# Altium schematic symbol library Arduino.SchLib: 3 symbols
Pins are listed as number, name and electrical type; pins without a type are passive.

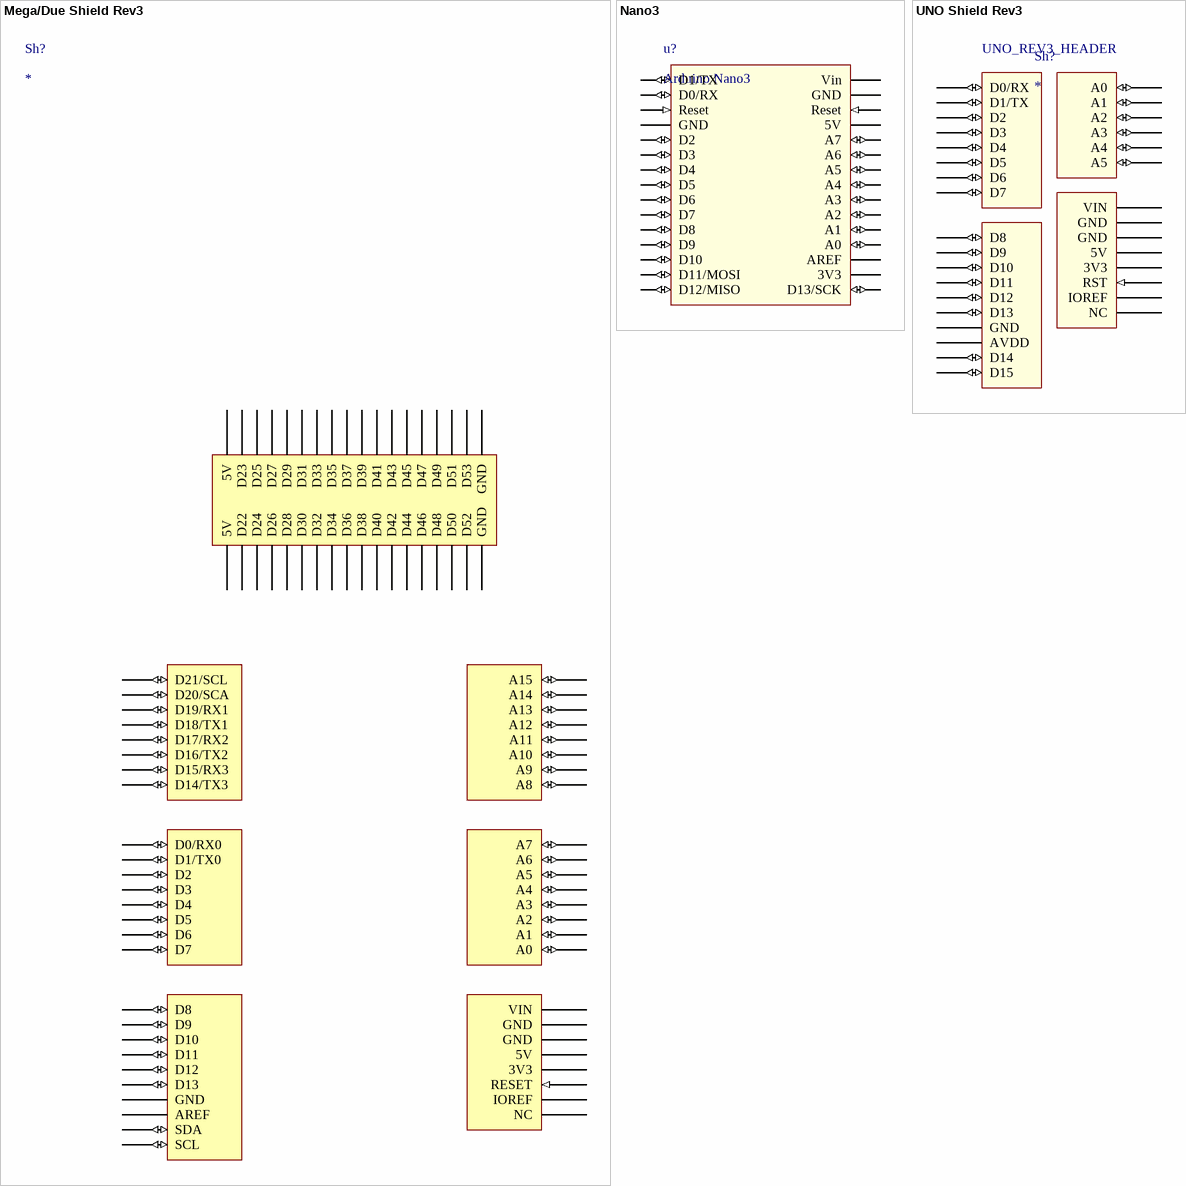
[diagram p0: symbols Mega/Due Shield Rev3 to UNO Shield Rev3]

## Mega/Due Shield Rev3
designator Sh?
footprint Mega2560_R3 Shield
pins: 1 NC, 2 IOREF (power), 3 RESET (in), 4 3V3 (power), 5 5V (power), 6 GND (power), 7 GND (power), 8 VIN (power), 9 A0 (io), 10 A1 (io), 11 A2 (io), 12 A3 (io), 13 A4 (io), 14 A5 (io), 15 A6 (io), 16 A7 (io), 17 A8 (io), 18 A9 (io), 19 A10 (io), 20 A11 (io), 21 A12 (io), 22 A13 (io), 23 A14 (io), 24 A15 (io), 25 D21/SCL (io), 25 SCL (io), 26 D20/SCA (io), 26 SDA (io), 27 D19/RX1 (io), 28 D18/TX1 (io), 29 D17/RX2 (io), 30 D16/TX2 (io), 31 D15/RX3 (io), 32 D14/TX3 (io), 33 D0/RX0 (io), 34 D1/TX0 (io), 35 D2 (io), 36 D3 (io), 37 D4 (io), 38 D5 (io), 39 D6 (io), 40 D7 (io), 41 D8 (io), 42 D9 (io), 43 D10 (io), 44 D11 (io), 45 D12 (io), 46 D13 (io), 47 GND (power), 48 AREF (power), 49 5V (power), 50 5V (power), 51 D22 (power), 52 D23 (power), 53 D24 (power), 54 D25 (power), 55 D26 (power), 56 D27 (power), 57 D28 (power), 58 D29 (power), 59 D30 (power), 60 D31 (power), 61 D32 (power), 62 D33 (power), 63 D34 (power), 64 D35 (power), 65 D36 (power), 66 D37 (power), 67 D38 (power), 68 D39 (power), 69 D40 (power), 70 D41 (power), 71 D42 (power), 72 D43 (power), 73 D44 (power), 74 D45 (power), 75 D46 (power), 76 D47 (power), 77 D48 (power), 78 D49 (power), 79 D50 (power), 80 D51 (power), 81 D52 (power), 82 D53 (power), 83 GND (power), 84 GND (power)

## Nano3
designator u?, comment Arduino Nano3
Arduino Nano3 microcontroller
footprint 2x15-DIL 30 Header (Arduino Nano3 header)
pins: 1 D1/TX (io), 2 D0/RX (io), 3 Reset (in), 4 GND (power), 5 D2 (io), 6 D3 (io), 7 D4 (io), 8 D5 (io), 9 D6 (io), 10 D7 (io), 11 D8 (io), 12 D9 (io), 13 D10 (io), 14 D11/MOSI (io), 15 D12/MISO (io), 16 D13/SCK (io), 17 3V3 (power) "3V3 voltage output", 18 AREF "Analog reference", 19 A0 (io), 20 A1 (io), 21 A2 (io), 22 A3 (io), 23 A4 (io), 24 A5 (io), 25 A6 (io), 26 A7 (io), 27 5V (power) "5V output", 28 Reset (in), 29 GND (power), 30 Vin (power) "VDD input"

## UNO Shield Rev3
designator Sh?
footprint UNO_R3 Shield
pins: 1 NC, 2 IOREF (power), 3 RST (in), 4 3V3 (power), 5 5V (power), 6 GND, 7 GND (power), 8 VIN (power), 9 A5 (io), 10 A4 (io), 11 A3 (io), 12 A2 (io), 13 A1 (io), 14 A0 (io), 15 D0/RX (io), 16 D1/TX (io), 17 D2 (io), 18 D3 (io), 19 D4 (io), 20 D5 (io), 21 D6 (io), 22 D7 (io), 23 D8 (io), 24 D9 (io), 25 D10 (io), 26 D11 (io), 27 D12 (io), 28 D13 (io), 29 GND (power), 30 AVDD (power), 31 D14 (io), 32 D15 (io)
text: UNO_REV3_HEADER